# Altium schematic symbol library LMK107BJ475KAHT.SchLib: 1 symbol
Pins are listed as number, name and electrical type; pins without a type are passive.

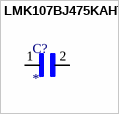
[diagram p0: symbol LMK107BJ475KAHT]

## LMK107BJ475KAHT
designator C?
CAPACITOR, MLCC, X5R, 4.7UF, 10V, 0603, REEL, FULL REEL; MP: LMK107BJ475KAHT; Package: None; Price: None; Value: *; Availability: Unavailable
footprint CAPC1608X90N
pins: 1, 2